# Altium footprint library DG1677-4.PcbLib: 1 footprints
Each footprint in its own frame and in the unit in brackets; x right, y up, seen from the top. Pads: shape width x height; smd on the part's side, far side on the other; paste and mask are expansions set on the pad; w line width, h text height; cw(c..) or ccw(c..) is an arc to the next point about the centre after c.
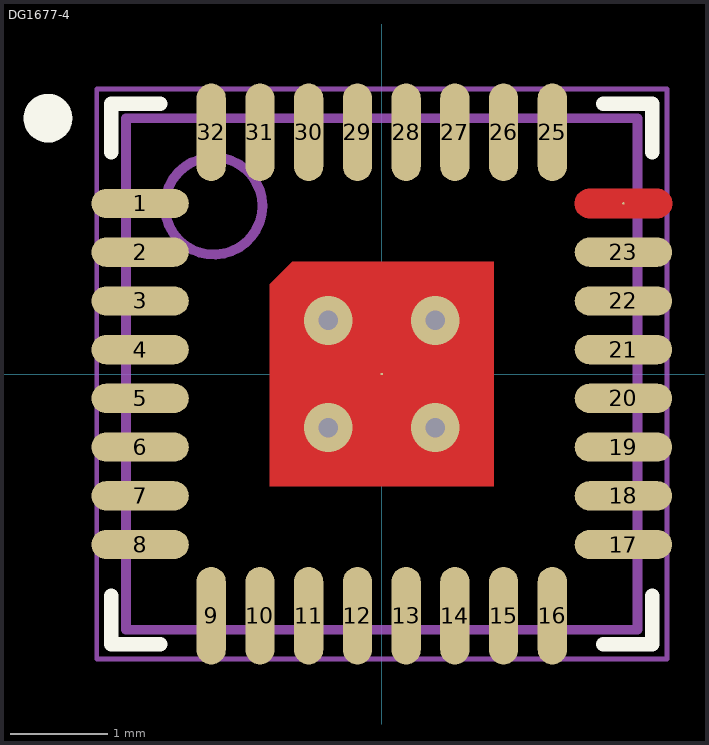
[diagram p0: the footprint, top view; thin cyan lines are the x and y axes]

## DG1677-4 [mm] "QFN, 32-Leads, Body 5,00x5,00mm, Pitch 0,50mm, Thermal Pad 2,30x2,30mm, IPC High Density"
height 1.2
pads (33):
  oval 1x0.3 smd mask+0.05: 1(-2.48,1.75) 2(-2.48,1.25) 3(-2.48,0.75) 4(-2.48,0.25) 5(-2.48,-0.25) 6(-2.48,-0.75) 7(-2.48,-1.25) 8(-2.48,-1.75) 17(2.48,-1.75) 18(2.48,-1.25) 19(2.48,-0.75) 20(2.48,-0.25) 21(2.48,0.25) 22(2.48,0.75) 23(2.48,1.25)
  oval 0.3x1 smd mask+0.05: 9(-1.75,-2.48) 10(-1.25,-2.48) 11(-0.75,-2.48) 12(-0.25,-2.48) 13(0.25,-2.48) 14(0.75,-2.48) 15(1.25,-2.48) 16(1.75,-2.48) 25(1.75,2.48) 26(1.25,2.48) 27(0.75,2.48) 28(0.25,2.48) 29(-0.25,2.48) 30(-0.75,2.48) 31(-1.25,2.48) 32(-1.75,2.48)
  round 0.025 smd mask+0.05: 24(2.48,1.75) 33(0,0)
via -0.55,0.55 diameter 0.5 hole 0.2
via 0.55,0.55 diameter 0.5 hole 0.2
via -0.55,-0.55 diameter 0.5 hole 0.2
via 0.55,-0.55 diameter 0.5 hole 0.2
Top Layer:
  region: -1.15,-1.15 1.15,-1.15 1.15,1.15 -0.92,1.15 -1.15,0.92
  region: 1.98,1.75 1.98,1.735 1.986,1.706 1.997,1.679 2.013,1.654 2.034,1.633 2.059,1.617 2.086,1.606 2.115,1.6 2.13,1.6 2.83,1.6 2.845,1.6 2.874,1.606 2.901,1.617 2.926,1.633 2.947,1.654 2.963,1.679 2.974,1.706 2.98,1.735 2.98,1.75 2.98,1.765 2.974,1.794 2.963,1.821 2.947,1.846 2.926,1.867 2.901,1.883 2.874,1.894 2.845,1.9 2.83,1.9 2.13,1.9 2.115,1.9 2.086,1.894 2.059,1.883 2.034,1.867 2.013,1.846 1.997,1.821 1.986,1.794 1.98,1.765
Top Overlay:
  circle w0.25: c-3.425,2.625 r0.125
  lines w0.15: -2.775,-2.275 -2.775,-2.775 -2.275,-2.775 ; -2.775,2.275 -2.775,2.775 -2.275,2.775 ; 2.275,-2.775 2.775,-2.775 2.775,-2.275 ; 2.275,2.775 2.775,2.775 2.775,2.275
Top Assembly:
  circle w0.1: c-1.725,1.725 r0.5
  lines w0.1: -2.625,-2.625 -2.625,2.625 2.625,2.625 2.625,-2.625 -2.625,-2.625
Top Courtyard:
  lines w0.05: -2.925,-2.925 -2.925,2.925 2.925,2.925 2.925,-2.925 -2.925,-2.925
  lines w0.1: -0.5,0 0.5,0 ; 0,-0.5 0,0.5
3D body "DG1677-4.step": height 1.2, standoff 0, extent -2.626,-2.626 2.626,2.626